# EAGLE library part USB-MINIB-BU (library hs-ul)
USB-MiniB-Buchse Oberflächenmontage irregulär von unten in Leiterplatten-Ausschnitt
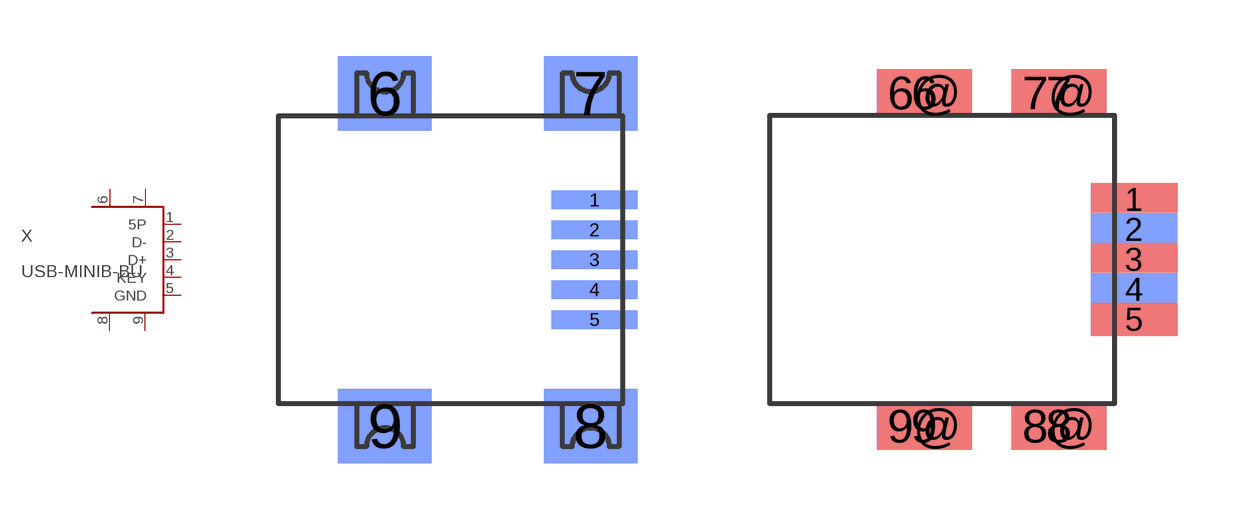
[diagram p1: symbol with the pads of USB-MINIB-BU; footprints USB-MINIB-BU, USB-MINIB-BUO]

Designator prefix X

## USB-MINIB-BU  [USB-MINIB-BU]
1  5P  sup
2  D-
3  D+
4  KEY
5  GND  pwr
6  GND  pwr
7  GND  pwr
8  GND  pwr
9  GND  pwr

## USB-MINIB-BUV2  [USB-MINIB-BUO]
Pads as for USB-MINIB-BU

## Footprint USB-MINIB-BU (pad centres in mm)
USB-MiniB-Buchse Oberflächenmontage irregulär von unten in Leiterplatten-Ausschnitt
smd 2.3 x 0.5 bottom: 1 7.85,1.6; 2 7.85,0.8; 3 7.85,0; 4 7.85,-0.8; 5 7.85,-1.6
smd 2.5 x 2 bottom: 6 2.25,4.45; 7 7.75,4.45; 8 7.75,-4.45; 9 2.25,-4.45

## Footprint USB-MINIB-BUO (pad centres in mm)
USB-MiniB-Buchse Oberflächenmontage irregulär von unten in Leiterplatten-Ausschnitt
smd 2.311 x 0.889: 1 9.12,1.6; 3 9.12,0; 5 9.12,-1.6
smd 2.311 x 0.889 bottom: 2 9.12,0.8; 4 9.12,-0.8
smd 2.54 x 1.27 bottom: 6 3.52,4.45; 7 7.115,4.45; 8 7.115,-4.45; 9 3.52,-4.45
smd 2.54 x 1.27: 6@ 3.52,4.45; 7@ 7.115,4.45; 8@ 7.115,-4.45; 9@ 3.52,-4.45